# EAGLE library part HPH2 (library inductor-coilcraft)
Hexa-Path Transformer
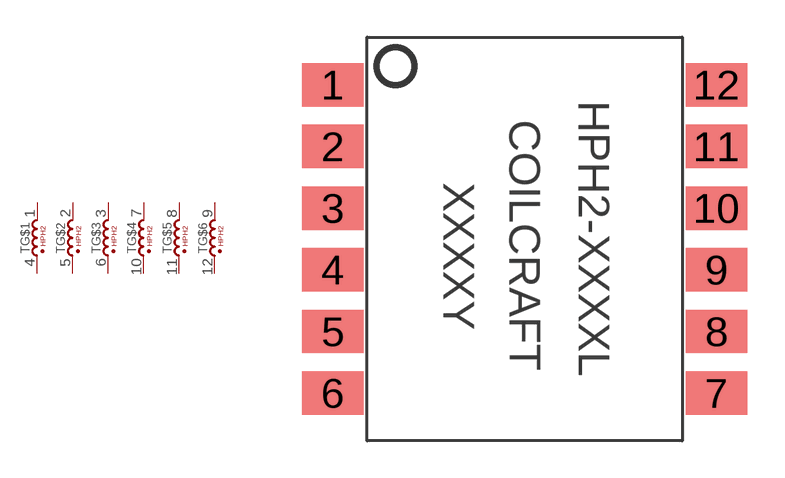
[diagram p1: symbol with the pads of HPH2/HP2; footprint HPH2/HP2]

Designator prefix T; gates G$1=TS G$2=TS G$3=TS G$4=TS G$5=TS G$6=TS

## HPH210.6UH (COILCRAFT: HPH2-0216LB; MFR: coilcraft; P1I: o; VALUE: 10.6uH)  [HPH2/HP2]
1  G$1:SC  pas
2  G$2:SC  pas
3  G$3:SC  pas
4  G$1:SH  pas
5  G$2:SH  pas
6  G$3:SH  pas
7  G$4:SC  pas
8  G$5:SC  pas
9  G$6:SC  pas
10  G$4:SH  pas
11  G$5:SH  pas
12  G$6:SH  pas

## Footprint HPH2/HP2 (pad centres in mm)
smd 2.489 x 1.753: 1 -7.747,6.223; 2 -7.747,3.734; 3 -7.747,1.245; 4 -7.747,-1.245; 5 -7.747,-3.734; 6 -7.747,-6.223; 7 7.747,-6.223; 8 7.747,-3.734; 9 7.747,-1.245; 10 7.747,1.245; 11 7.747,3.734; 12 7.747,6.223